# Altium footprint library 22u16VcapE.PcbLib: 1 footprints
Each footprint in its own frame and in the unit in brackets; x right, y up, seen from the top. Pads: shape width x height; smd on the part's side, far side on the other; paste and mask are expansions set on the pad; w line width, h text height; cw(c..) or ccw(c..) is an arc to the next point about the centre after c.
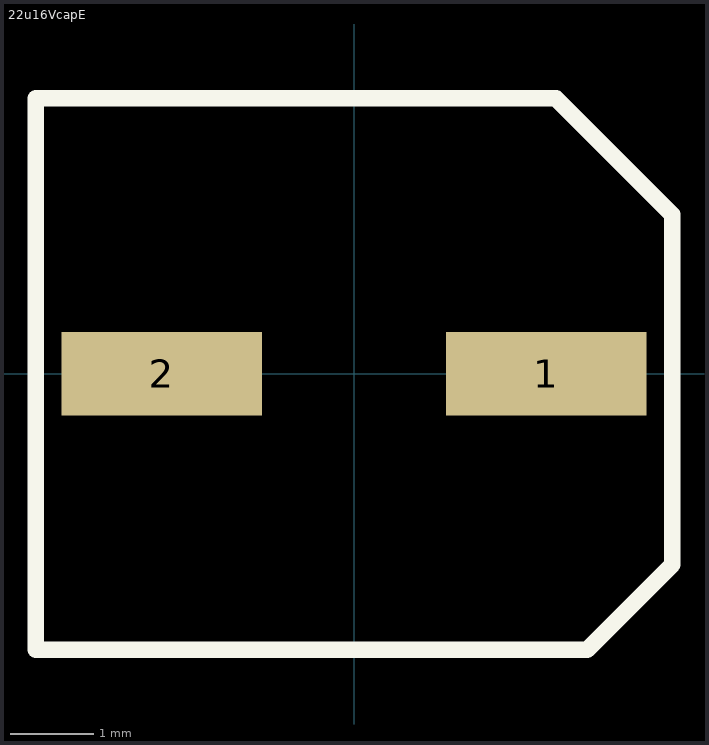
[diagram p0: the footprint, top view; thin cyan lines are the x and y axes]

## 22u16VcapE [mm]
height 5.8
pads (2):
  rect 2.4x1 smd: 1(2.3,0) 2(-2.3,0)
Top Overlay:
  lines w0.2: -3.81,-3.302 -3.81,-2.49 -3.81,3.3 2.42,3.3 3.81,1.91 3.81,-2.286 2.794,-3.302 -3.81,-3.302